# Altium schematic symbol library LogicTranslator.SchLib: 1 symbol
Pins are listed as number, name and electrical type; pins without a type are passive.

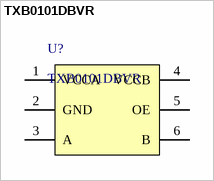
[diagram p0: symbol TXB0101DBVR]

## TXB0101DBVR
designator U?
IC VOLT-LVL TRANSL 1BIT SOT23-6; Manufacturer: Texas Instruments; Logic Function: Translator, Bidirectional; Number of Bits: 1; Input Type: Logic; Data Rate: 100Mbps; Differential - Input:Output: No/No; Propagation Delay (Max): 4ns; Voltage - Supply: 1.2 V ~ 3.6 V, 1.65 V ~ 5.5 V; Supplier 1: Digi-Key; Supplier Part Number 1: 296-21664-1-ND; Manufacturer Part Number: TXB0101DBVR; RoHS: RoHS Compliant; Category: Integrated Circuits (ICs); Stock 1: 5961; Pricing 1: 1=0.82, 10=0.722, 25=0.638, 100=0.556, 250=0.484, 500=0.412, 750=0.36, 1000=0.33 (USD); Packaging: Cut Tape (CT); Output Type: Logic; Number of Channels: 1; Number of Outputs/Channel: 1; Operating Temperature: -40°C ~ 85°C; Package / Case: SOT-23-6; Supplier Device Package: SOT-23-6; Mounting Type: Surface Mount; ComponentLink1URL: http://www.ti.com/lit/ds/symlink/txb0101.pdf; ComponentLink1Description: http://www.ti.com/lit/ds/symlink/txb0101.pdf
footprint SOT-23-6 (SOT package 6 pads)
pins: 1 VCCA (power), 2 GND (power), 3 A, 4 VCCB (power), 5 OE, 6 B